# Altium schematic symbol library Net ties.SchLib: 1 symbol
Pins are listed as number, name and electrical type; pins without a type are passive.

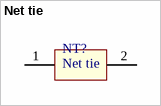
[diagram p0: symbol Net tie]

## Net tie
designator NT?  (value not drawn)  (net tie, no BOM)
footprint NET TIE 2x2mm (NET Connection (for one GND point usually))
footprint NET TIE 0.5x0.5mm (NET Connection (for one GND point usually))
footprint NET TIE 1x1mm (NET Connection (for one GND point usually))
footprint NET TIE 0.1x0.1mm (NET Connection (for one GND point usually))
footprint NET TIE 0.25x0.25mm (NET Connection (for one GND point usually))
footprint NET TIE 0.65x0.65mm (NET Connection (for one GND point usually))
pins: 1, 2